# Altium schematic symbol library BL8076CKBTR.A1.SchLib: 1 symbol
Pins are listed as number, name and electrical type; pins without a type are passive.

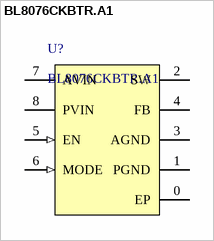
[diagram p0: symbol BL8076CKBTR.A1]

## BL8076CKBTR.A1
designator U?
pins: 0 EP, 1 PGND, 2 SW, 3 AGND, 4 FB, 5 EN (in), 6 MODE (in), 7 AVIN (power), 8 PVIN (power)